# Altium footprint library hl0603.PcbLib: 1 footprints
Each footprint in its own frame and in the unit in brackets; x right, y up, seen from the top. Pads: shape width x height; smd on the part's side, far side on the other; paste and mask are expansions set on the pad; w line width, h text height; cw(c..) or ccw(c..) is an arc to the next point about the centre after c.
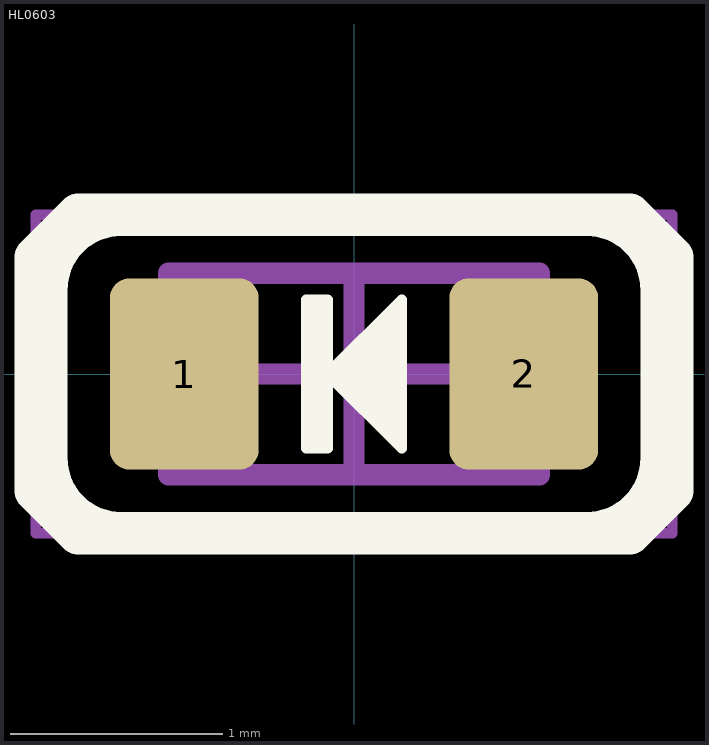
[diagram p0: the footprint, top view; thin cyan lines are the x and y axes]

## HL0603 [mm] "Chip Resistor, 2-Leads, Body 1,60x0,80mm, IPC Medium Density"
height 0.95
pads (2):
  rrect25% 0.7x0.9 smd: 1(-0.8,0) 2(0.8,0)
Top Overlay:
  rectangle: -0.225,-0.35 -0.125,0.35
  region: -1.35,0.25
  region: 0.225,0.35 -0.125,0 0.225,-0.35
  lines w0.05: -0.225,-0.35 -0.225,0.35 -0.125,0.35 -0.125,-0.35 -0.225,-0.35 ; -0.125,0 0.225,0.35 0.225,-0.35 -0.125,0
  lines w0.1: -1.3,-0.75 -1.3,-0.75 ; 1.3,0.75 1.3,0.75
  lines w0.2: 1.1,-0.75 ccw(c1.1,-0.4) 1.45,-0.4 1.45,0.4 ccw(c1.1,0.4) 1.1,0.75 ; -1.5,0.55 -1.5,-0.55 -1.3,-0.75 1.3,-0.75 1.5,-0.55 ; -1.5,0.55 -1.5,0.55 ; -1.5,0.55 -1.3,0.75 1.3,0.75 ; -1.45,-0.4 ccw(c-1.1,-0.4) -1.1,-0.75 cw(c-1.1,-0.4) -1.45,-0.4 ; -1.45,-0.4 -1.45,0.4 ; -1.45,-0.4 -1.45,0.4 ; -1.45,0.4 cw(c-1.1,0.4) -1.1,0.75 ccw(c-1.1,0.4) -1.45,0.4 ; 1.3,0.75 1.5,0.55 1.5,-0.55 ; 1.3,0.75 1.3,0.75 ; 1.5,-0.55 1.5,-0.55
Top Comment:
  text ".Comment" at 1,1 h1.2
Top Designator:
  text ".Designator" at -0.5,1 h1.2
Top Component Outline:
  lines w0.1: -0.875,-0.475 0.875,-0.475 0.875,0.475 -0.875,0.475 -0.875,-0.475
Top Courtyard (Mech15):
  lines w0.05: -1.5,-0.75 -1.5,0.75 ; -1.5,-0.75 1.5,-0.75 1.5,0.75 -1.5,0.75 ; -1.5,-0.75 -1.5,0.75
  lines w0.1: -0.475,0 0.475,0 ; 0,-0.475 0,0.475
3D body "ALSRobot-LED0603(R).STEP": height 0.64, standoff 0.04, extent -0.81,-0.4 0.81,0.4